# Altium schematic symbol library LED_PINK.SCHLIB: 1 symbol
Pins are listed as number, name and electrical type; pins without a type are passive.

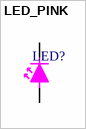
[diagram p0: symbol LED_PINK]

## LED_PINK
designator LED?
pins: 1 A, 2 C